# Altium footprint library Controller.PcbLib: 23 footprints (part 1 of 2)
Each footprint in its own frame and in the unit in brackets; x right, y up, seen from the top. Pads: shape width x height; smd on the part's side, far side on the other; paste and mask are expansions set on the pad; w line width, h text height; cw(c..) or ccw(c..) is an arc to the next point about the centre after c.
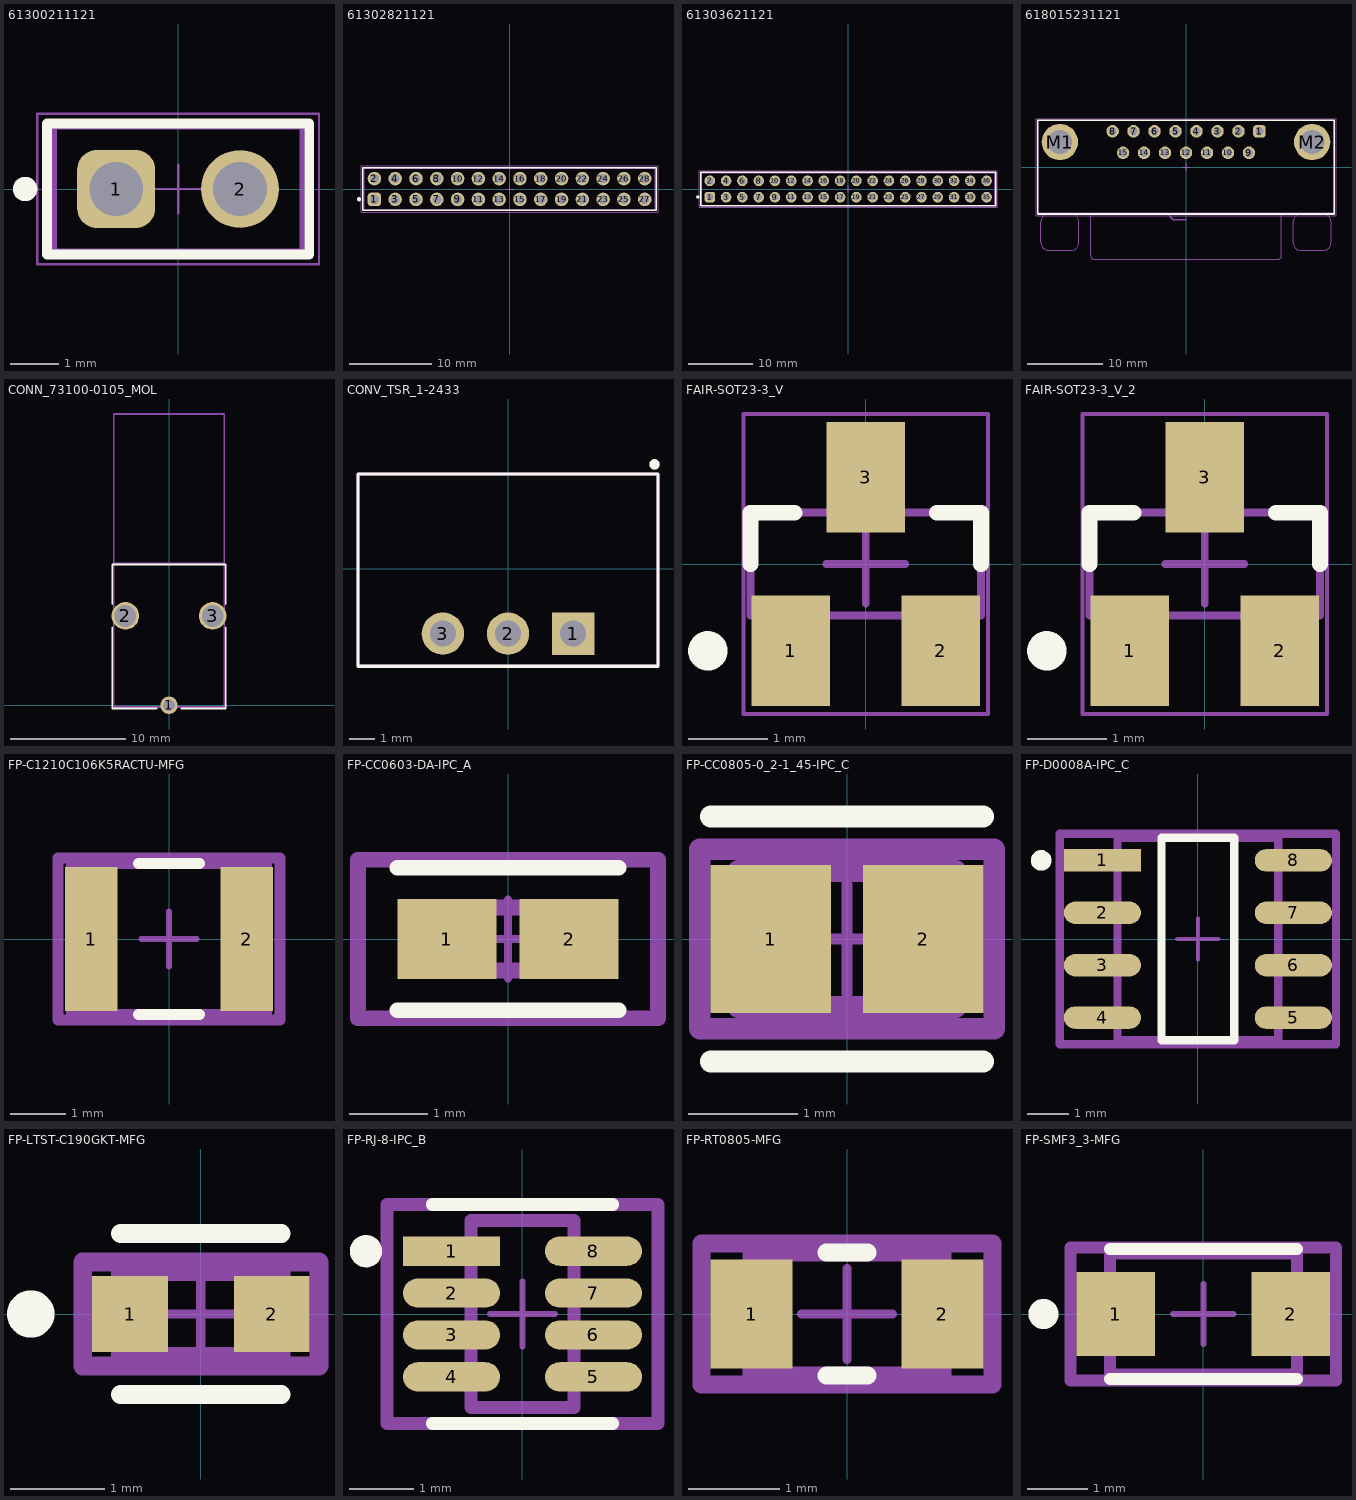
[diagram p0: the footprints below, top view; thin cyan lines are the x and y axes]

## 61300211121 [mm] "Pin Header, pitch 2.54 mm, THT, Vertical, single row, 2p"
height 8.54
pads (2):
  rrect50% 1.6x1.6 hole 1.1: 1(-1.27,0)
  round 1.6 hole 1.1: 2(1.27,0)
Top Overlay:
  circle w0.25: c-3.14,0 r0.125
  lines w0.2: -2.69,-1.345 -2.69,1.345 2.69,1.345 2.69,-1.345 -2.69,-1.345
Top Designator:
  text ".Designator" at -7.498,-0.5 h1.5
Top Component Outline:
  lines w0.1: -2.54,-1.27 2.54,-1.27 2.54,1.27 -2.54,1.27 -2.54,-1.27
Top Courtyard:
  lines w0.05: -2.89,-1.545 2.89,-1.545 2.89,1.545 -2.89,1.545 -2.89,-1.545
Top Component Center:
  lines w0.05: -0.5,0 0.5,0 ; 0,-0.5 0,0.5
3D body "61300211121.stp": height 8.57, standoff -2.97, extent -2.54,-1.27 2.54,1.27

## 61302821121 [mm] "Pin Header, pitch 2.54 mm, THT, Vertical, dual row, 28p"
height 8.54
pads (28):
  rrect50% 1.65x1.65 hole 1.1: 1(-16.51,-1.27)
  round 1.65 hole 1.1: 2(-16.51,1.27) 3(-13.97,-1.27) 4(-13.97,1.27) 5(-11.43,-1.27) 6(-11.43,1.27) 7(-8.89,-1.27) 8(-8.89,1.27) 9(-6.35,-1.27) 10(-6.35,1.27) 11(-3.81,-1.27) 12(-3.81,1.27) 13(-1.27,-1.27) 14(-1.27,1.27) 15(1.27,-1.27) 16(1.27,1.27) 17(3.81,-1.27) 18(3.81,1.27) 19(6.35,-1.27) 20(6.35,1.27) 21(8.89,-1.27) 22(8.89,1.27) 23(11.43,-1.27) 24(11.43,1.27) 25(13.97,-1.27) 26(13.97,1.27) 27(16.51,-1.27) 28(16.51,1.27)
Top Overlay:
  circle w0.25: c-18.39,-1.25 r0.125
  lines w0.2: -17.93,-2.615 17.93,-2.615 17.93,2.615 -17.93,2.615 -17.93,-2.615
Top Designator:
  text ".Designator" at -7.498,-0.5 h1.5
Top Component Outline:
  lines w0.1: -17.78,-2.54 17.78,-2.54 17.78,2.54 -17.78,2.54 -17.78,-2.54
Top Courtyard:
  lines w0.05: -18.13,-2.815 -18.13,2.815 18.13,2.815 18.13,-2.815 -18.13,-2.815
Top Component Center:
  lines w0.05: -0.5,0 0.5,0 ; 0,-0.5 0,0.5
3D body "61302821121.stp": height 8.59, standoff -2.95, extent -17.78,-2.54 17.78,2.54

## 61303621121 [mm] "Pin Header, pitch 2.54 mm, THT, Vertical, dual row, 36p"
height 8.54
pads (36):
  rrect50% 1.65x1.65 hole 1.1: 1(-21.59,-1.27)
  round 1.65 hole 1.1: 2(-21.59,1.27) 3(-19.05,-1.27) 4(-19.05,1.27) 5(-16.51,-1.27) 6(-16.51,1.27) 7(-13.97,-1.27) 8(-13.97,1.27) 9(-11.43,-1.27) 10(-11.43,1.27) 11(-8.89,-1.27) 12(-8.89,1.27) 13(-6.35,-1.27) 14(-6.35,1.27) 15(-3.81,-1.27) 16(-3.81,1.27) 17(-1.27,-1.27) 18(-1.27,1.27) 19(1.27,-1.27) 20(1.27,1.27) 21(3.81,-1.27) 22(3.81,1.27) 23(6.35,-1.27) 24(6.35,1.27) 25(8.89,-1.27) 26(8.89,1.27) 27(11.43,-1.27) 28(11.43,1.27) 29(13.97,-1.27) 30(13.97,1.27) 31(16.51,-1.27) 32(16.51,1.27) 33(19.05,-1.27) 34(19.05,1.27) 35(21.59,-1.27) 36(21.59,1.27)
Top Overlay:
  circle w0.25: c-23.47,-1.25 r0.125
  lines w0.2: -23.01,-2.615 23.01,-2.615 23.01,2.615 -23.01,2.615 -23.01,-2.615
Top Designator:
  text ".Designator" at -7.498,-0.5 h1.5
Top Component Outline:
  lines w0.1: -22.86,-2.54 22.86,-2.54 22.86,2.54 -22.86,2.54 -22.86,-2.54
Top Courtyard:
  lines w0.05: -23.21,-2.815 -23.21,2.815 23.21,2.815 23.21,-2.815 -23.21,-2.815
Top Component Center:
  lines w0.05: -0.5,0 0.5,0 ; 0,-0.5 0,0.5
3D body "61303621121.stp": height 8.59, standoff -2.95, extent -22.86,-2.54 22.86,2.54

## 618015231121 [mm] "15 pins, right angled, 8.08mm, with hex screw"
height 12.5
pads (17):
  rrect50% 1.65x1.65 hole 1.09: 1(9.695,4.72)
  round 1.65 hole 1.09: 2(6.925,4.72) 3(4.155,4.72) 4(1.385,4.72) 5(-1.385,4.72) 6(-4.155,4.72) 7(-6.925,4.72) 8(-9.695,4.72) 9(8.31,1.88) 10(5.54,1.88) 11(2.77,1.88) 12(0,1.88) 13(-2.77,1.88) 14(-5.54,1.88) 15(-8.31,1.88)
  round 4.8 hole 3.2: M1(-16.65,3.3) M2(16.65,3.3)
Top Overlay:
  lines w0.2: -19.6,-6.2 19.6,-6.2 19.6,6.2 -19.6,6.2 -19.6,-6.2
Mechanical 2:
  lines w0.2: -19.6,-6.12 19.6,-6.12 ; -2.5,-6.12 -1.67,-6.95 0,-6.95
  text "PCB Edge" at 0.4,-7.55 h1.02
Top Designator:
  text ".Designator" at -7.498,-0.5 h1.5
Top Component Outline:
  lines w0.1: -18.15,-6.2 ccw(c-18.15,-7.2) -19.15,-7.2 -19.15,-10 ccw(c-18.15,-10) -18.15,-11 -15.15,-11 ccw(c-15.15,-10) -14.15,-10 -14.15,-7.2 ccw(c-15.15,-7.2) -15.15,-6.2 ; -12.6,-6.2 -12.6,-11.7 ccw(c-12.1,-11.7) -12.1,-12.2 12.1,-12.2 ccw(c12.1,-11.7) 12.6,-11.7 12.6,-6.2 ; 15.15,-6.2 ccw(c15.15,-7.2) 14.15,-7.2 14.15,-10 ccw(c15.15,-10) 15.15,-11 18.15,-11 ccw(c18.15,-10) 19.15,-10 19.15,-7.2 ccw(c18.15,-7.2) 18.15,-6.2 ; -19.6,-6.2 19.6,-6.2 19.6,6.2 -19.6,6.2 -19.6,-6.2 ; 3.8,-12.2 3.8,-12.2
Top Courtyard:
  lines w0.05: -0.5,0 0.5,0 ; 0,-0.5 0,0.5 ; -19.8,-6.4 -19.8,6.4 19.8,6.4 19.8,-6.4 -19.8,-6.4
3D body "618015231121.stp": height 12.55, standoff -3.95, extent -19.6,-12.2 19.6,6.2

## CONN_73100-0105_MOL [mil]
pads (3):
  round 60 hole 40: 1(0,0)
  round 95 hole 75: 2(-150,307) 3(150,307)
Top Overlay:
  lines w6: -195,267 -195,-11 -42,-11 ; -195,347 -195,483 195,483 195,347 ; 42,-11 195,-11 195,267
Top 3D Body:
  lines w6: -190,488 -190,-6 190,-6 190,488 ; -190,488 190,488 ; -190,488 -190,1000 190,1000 190,488
3D body "731000105.stp": height 366.87, standoff -116.87, extent -189.96,-2.95 189.96,1002.95

## CONV_TSR_1-2433 [mil]
pads (3):
  rect 65x65 hole 40: 1(100,-100)
  round 65 hole 40: 2(0,-100) 3(-100,-100)
Top Overlay:
  circle w7.87: c225,160 r3.94
  lines w5: -230.31,-150 -230.31,145 230.31,145 230.31,-150 -230.31,-150
Top 3D Body:
  circle w7.87: c225,160 r3.94
  lines w5: -230.31,-150 -230.31,145 230.31,145 230.31,-150 -230.31,-150
Top Courtyard:
  lines w1.97: -230,-150 230,-150 230,145 -230,145 -230,-150
3D body "N7803-1PV.stp": height 634.96, standoff -194.96, extent -206.69,-112.6 206.69,198.43

## FAIR-SOT23-3_V [mm] "SOT23, 3-Leads, Body 2.92x1.3mm, Pitch 0.95mm"
height 1.2
pads (3):
  rect 1x1.4 smd: 1(-0.95,-1.1) 2(0.95,-1.1) 3(0,1.1)
Top Overlay:
  circle w0.25: c-2,-1.1 r0.125
  lines w0.2: -1.46,0 -1.46,0.65 -0.9,0.65 ; 0.9,0.65 1.46,0.65 1.46,0
Top 3D Body:
  lines w0.1: -1.46,-0.65 1.46,-0.65 1.46,0.65 -1.46,0.65 -1.46,-0.65
Top Courtyard:
  lines w0.05: -1.55,-1.9 1.55,-1.9 1.55,1.9 -1.55,1.9 -1.55,-1.9
  lines w0.1: -0.5,0 0.5,0 ; 0,-0.5 0,0.5
3D body: height 1.2, standoff 0, extent -1.46,-0.65 1.46,0.65

## FAIR-SOT23-3_V_2 [mm]
pads (3):
  rect 1x1.4 smd: 1(-0.95,-1.1) 2(0.95,-1.1) 3(0,1.1)
Top Overlay:
  circle w0.25: c-2,-1.1 r0.125
  lines w0.2: -1.46,0 -1.46,0.65 -0.9,0.65 ; 0.9,0.65 1.46,0.65 1.46,0
Top 3D Body:
  lines w0.1: -1.46,-0.65 -1.46,0.65 1.46,0.65 1.46,-0.65 -1.46,-0.65
Top Courtyard:
  lines w0.05: -1.55,-1.9 -1.55,1.9 1.55,1.9 1.55,-1.9 -1.55,-1.9
  lines w0.1: -0.5,0 0.5,0 ; 0,-0.5 0,0.5
3D body: height 1.2, standoff 0, extent -1.46,-0.65 1.46,0.65

## FP-C1210C106K5RACTU-MFG [mm]
height 1
pads (2):
  rect 0.95x2.6 smd paste+0 mask+0: 1(-1.4,0) 2(1.4,0)
Top Overlay:
  lines w0.2: -0.55,-1.36 0.55,-1.36 ; -0.55,1.36 0.55,1.36
Top Assembly:
  lines w0.2: -2,-1.46 -2,1.46 2,1.46 2,-1.46 -2,-1.46
  text ".Designator" at 0,0.188 h1
Top 3D Body:
  lines w0.2: -1.75,-1.36 -1.75,1.36 1.75,1.36 1.75,-1.36 -1.75,-1.36
Top Courtyard:
  lines w0.2: -2,-1.46 -2,1.46 2,1.46 2,-1.46 -2,-1.46
Top Component Center:
  lines w0.1: -0.5,0 0.5,0 ; 0,-0.5 0,0.5
3D body "Cap_KEMET_C1210C106K5RACTU_eec.STEP": height 0.25, standoff 0, extent -2,-1.46 2,1.46

## FP-CC0603-DA-IPC_A [mm]
height 1
pads (2):
  rect 1.258x1.012 smd paste+0 mask+0: 1(-0.777,0) 2(0.777,0)
Top Overlay:
  lines w0.2: -1.406,-0.906 1.406,-0.906 ; -1.406,0.906 1.406,0.906
Top Assembly:
  lines w0.2: -1.906,-1.006 -1.906,1.006 1.906,1.006 1.906,-1.006 -1.906,-1.006
  text ".Designator" at 0,0.188 h1
Top 3D Body:
  lines w0.2: -0.8,-0.4 -0.8,0.4 0.8,0.4 0.8,-0.4 -0.8,-0.4
Top Courtyard:
  lines w0.2: -1.906,-1.006 -1.906,1.006 1.906,1.006 1.906,-1.006 -1.906,-1.006
Top Component Center:
  lines w0.1: -0.5,0 0.5,0 ; 0,-0.5 0,0.5
3D body "Cap_Yageo_CC0603KRX7R5BB104_eec.STEP": height 0.25, standoff 0, extent -1.906,-1.006 1.906,1.006

## FP-CC0805-0_2-1_45-IPC_C [mm]
pads (2):
  rect 1.105x1.356 smd paste+0 mask+0: 1(-0.701,0) 2(0.701,0)
Top Overlay:
  lines w0.2: -1.253,-1.125 1.253,-1.125 ; -1.253,1.125 1.253,1.125
Top Assembly:
  lines w0.2: -1.353,-0.825 1.353,-0.825 1.353,0.825 -1.353,0.825 -1.353,-0.825
  text ".Designator" at 0,0.188 h1
Top 3D Body:
  lines w0.2: -1,-0.625 1,-0.625 1,0.625 -1,0.625 -1,-0.625
Top Courtyard:
  lines w0.2: -1.353,-0.825 1.353,-0.825 1.353,0.825 -1.353,0.825 -1.353,-0.825
Top Component Center:
  lines w0.1: -0.5,0 0.5,0 ; 0,-0.5 0,0.5
3D body "Cap_Yageo_CC0805MKX6S4BB226_eec.STEP": height 0.25, standoff 0, extent -1.353,-0.825 1.353,0.825

## FP-D0008A-IPC_C [mm]
pads (8):
  rect 1.869x0.542 smd paste+0 mask+0: 1(-2.314,1.905)
  rrect100% 1.869x0.542 smd paste+0 mask+0: 2(-2.314,0.635) 3(-2.314,-0.635) 4(-2.314,-1.905) 5(2.314,-1.905) 6(2.314,-0.635) 7(2.314,0.635) 8(2.314,1.905)
Top Overlay:
  circle w0.25: c-3.798,1.905 r0.125
  lines w0.2: -0.879,-2.452 0.879,-2.452 0.879,2.452 -0.879,2.452 -0.879,-2.452
Top Assembly:
  lines w0.2: -3.348,-2.552 3.348,-2.552 3.348,2.552 -3.348,2.552 -3.348,-2.552
  text ".Designator" at 0,0.188 h1
Top 3D Body:
  lines w0.2: -1.947,-2.452 1.947,-2.452 1.947,2.452 -1.947,2.452 -1.947,-2.452
Top Courtyard:
  lines w0.2: -3.348,-2.552 3.348,-2.552 3.348,2.552 -3.348,2.552 -3.348,-2.552
Top Component Center:
  lines w0.1: -0.5,0 0.5,0 ; 0,-0.5 0,0.5
3D body "IC_Texas_Instruments_ISO7220ADR_eec.STEP": height 0.25, standoff 0, extent -3.348,-2.552 3.348,2.552

## FP-LTST-C190GKT-MFG [mm]
pads (2):
  rect 0.8x0.8 smd paste+0 mask+0: 1(-0.75,0) 2(0.75,0)
Top Overlay:
  circle w0.25: c-1.8,0 r0.125
  lines w0.2: -0.85,-0.85 0.85,-0.85 ; -0.85,0.85 0.85,0.85
Top Assembly:
  lines w0.2: -1.25,-0.55 1.25,-0.55 1.25,0.55 -1.25,0.55 -1.25,-0.55
  text ".Designator" at 0,-0.001 h1
Top 3D Body:
  lines w0.2: -0.85,-0.45 0.85,-0.45 0.85,0.45 -0.85,0.45 -0.85,-0.45
Top Courtyard:
  lines w0.2: -1.25,-0.55 1.25,-0.55 1.25,0.55 -1.25,0.55 -1.25,-0.55
Top Component Center:
  lines w0.1: -0.5,0 0.5,0 ; 0,-0.5 0,0.5
3D body "Diode_Lite-On_LTST-C190GKT_eec.STEP": height 0.25, standoff 0, extent -1.25,-0.55 1.25,0.55

## FP-RJ-8-IPC_B [mm]
height 1
pads (8):
  rect 1.505x0.455 smd paste+0 mask+0: 1(-1.1,0.975)
  rrect100% 1.505x0.455 smd paste+0 mask+0: 2(-1.1,0.325) 3(-1.1,-0.325) 4(-1.1,-0.975) 5(1.1,-0.975) 6(1.1,-0.325) 7(1.1,0.325) 8(1.1,0.975)
Top Overlay:
  circle w0.25: c-2.428,0.975 r0.125
  lines w0.2: -1.4,-1.7 1.4,-1.7 ; -1.4,1.7 1.4,1.7
Top Assembly:
  lines w0.2: -2.103,-1.7 -2.103,1.7 2.103,1.7 2.103,-1.7 -2.103,-1.7
  text ".Designator" at 0,0.188 h1
Top 3D Body:
  lines w0.2: -0.8,-1.45 -0.8,1.45 0.8,1.45 0.8,-1.45 -0.8,-1.45
Top Courtyard:
  lines w0.2: -2.103,-1.7 -2.103,1.7 2.103,1.7 2.103,-1.7 -2.103,-1.7
Top Component Center:
  lines w0.1: -0.5,0 0.5,0 ; 0,-0.5 0,0.5
3D body "IC_Analog_Devices_AD5245BRJZ10-R2_eec.STEP": height 0.25, standoff 0, extent -2.103,-1.7 2.103,1.7

## FP-RT0805-MFG [mm]
height 1
pads (2):
  rect 0.9x1.2 smd paste+0 mask+0: 1(-1.05,0) 2(1.05,0)
Top Overlay:
  lines w0.2: -0.225,-0.675 0.225,-0.675 ; -0.225,0.675 0.225,0.675
Top Assembly:
  lines w0.2: -1.6,-0.775 -1.6,0.775 1.6,0.775 1.6,-0.775 -1.6,-0.775
  text ".Designator" at 0,0.188 h1
Top 3D Body:
  lines w0.2: -1.05,-0.675 -1.05,0.675 1.05,0.675 1.05,-0.675 -1.05,-0.675
Top Courtyard:
  lines w0.2: -1.6,-0.775 -1.6,0.775 1.6,0.775 1.6,-0.775 -1.6,-0.775
Top Component Center:
  lines w0.1: -0.5,0 0.5,0 ; 0,-0.5 0,0.5
3D body "Res_Yageo_RT0805WRB07165RL_eec.STEP": height 0.25, standoff 0, extent -1.6,-0.775 1.6,0.775

## FP-SMF3_3-MFG [mm]
pads (2):
  rect 1.3x1.4 smd paste+0 mask+0: 1(-1.45,0) 2(1.45,0)
Top Overlay:
  circle w0.25: c-2.65,0 r0.125
  lines w0.2: -1.55,-1.075 1.55,-1.075 ; -1.55,1.075 1.55,1.075
Top Assembly:
  lines w0.2: -2.2,-1.1 2.2,-1.1 2.2,1.1 -2.2,1.1 -2.2,-1.1
  text ".Designator" at 0,-0.001 h1
Top 3D Body:
  lines w0.2: -1.55,-1 1.55,-1 1.55,1 -1.55,1 -1.55,-1
Top Courtyard:
  lines w0.2: -2.2,-1.1 2.2,-1.1 2.2,1.1 -2.2,1.1 -2.2,-1.1
Top Component Center:
  lines w0.1: -0.5,0 0.5,0 ; 0,-0.5 0,0.5
3D body "Diode_Littelfuse_SMF3_3_eec.STEP": height 0.25, standoff 0, extent -2.2,-1.1 2.2,1.1